# Altium schematic symbol library X-CSTCE8M00G15C99-R0.Schlib: 1 symbol
Pins are listed as number, name and electrical type; pins without a type are passive.

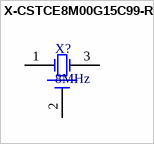
[diagram p0: symbol X-CSTCE8M00G15C99-R0]

## X-CSTCE8M00G15C99-R0
designator X?, comment 8MHz
Resonators 8MHZ 0.1%
pins: 1 OSC1, 2 GND, 3 OSC2